# EAGLE library part PIC32MX270F256D (library Parts)
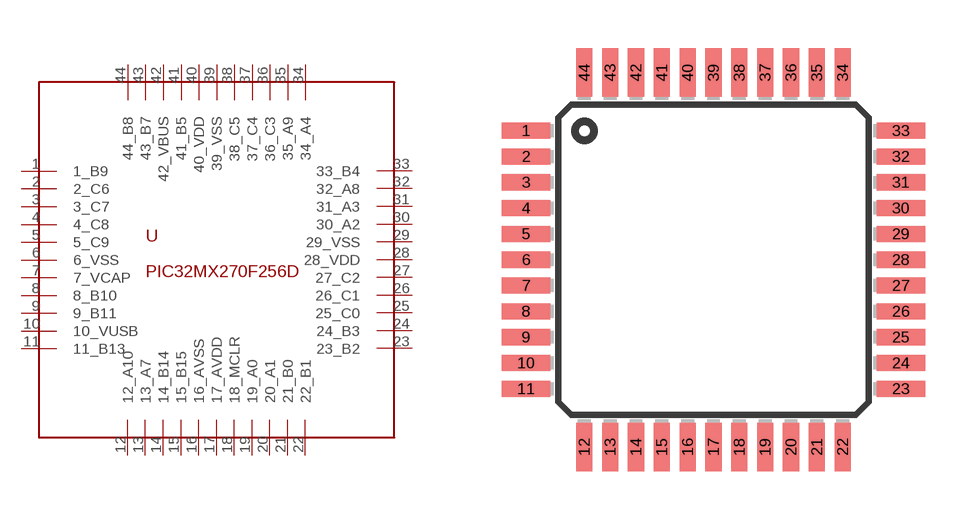
[diagram p0: symbol with the pads of TQFP44; footprint TQFP44]

Designator prefix -

## PIC32MX270F256D  [TQFP44]
1  1_B9
2  2_C6
3  3_C7
4  4_C8
5  5_C9
6  6_VSS
7  7_VCAP
8  8_B10
9  9_B11
10  10_VUSB
11  11_B13
12  12_A10
13  13_A7
14  14_B14
15  15_B15
16  16_AVSS
17  17_AVDD
18  18_MCLR
19  19_A0
20  20_A1
21  21_B0
22  22_B1
23  23_B2
24  24_B3
25  25_C0
26  26_C1
27  27_C2
28  28_VDD
29  29_VSS
30  30_A2
31  31_A3
32  32_A8
33  33_B4
34  34_A4
35  35_A9
36  36_C3
37  37_C4
38  38_C5
39  39_VSS
40  40_VDD
41  41_B5
42  42_VBUS
43  43_B7
44  44_B8

## Footprint TQFP44 (pad centres in mm)
PIC32MX270F256D
smd 1.5 x 0.5: 1 -5.8,4; 2 -5.8,3.2; 3 -5.8,2.4; 4 -5.8,1.6; 5 -5.8,0.8; 6 -5.8,0; 7 -5.8,-0.8; 8 -5.8,-1.6; 9 -5.8,-2.4; 10 -5.8,-3.2; 11 -5.8,-4; 23 5.8,-4; 24 5.8,-3.2; 25 5.8,-2.4; 26 5.8,-1.6; 27 5.8,-0.8; 28 5.8,0; 29 5.8,0.8; 30 5.8,1.6; 31 5.8,2.4; 32 5.8,3.2; 33 5.8,4
smd 0.5 x 1.5: 12 -4,-5.8; 13 -3.2,-5.8; 14 -2.4,-5.8; 15 -1.6,-5.8; 16 -0.8,-5.8; 17 0,-5.8; 18 0.8,-5.8; 19 1.6,-5.8; 20 2.4,-5.8; 21 3.2,-5.8; 22 4,-5.8; 34 4,5.8; 35 3.2,5.8; 36 2.4,5.8; 37 1.6,5.8; 38 0.8,5.8; 39 0,5.8; 40 -0.8,5.8; 41 -1.6,5.8; 42 -2.4,5.8; 43 -3.2,5.8; 44 -4,5.8